# Altium footprint library LPEDT_Parts.PcbLib: 27 footprints (part 2 of 2)
Each footprint in its own frame and in the unit in brackets; x right, y up, seen from the top. Pads: shape width x height; smd on the part's side, far side on the other; paste and mask are expansions set on the pad; w line width, h text height; cw(c..) or ccw(c..) is an arc to the next point about the centre after c.
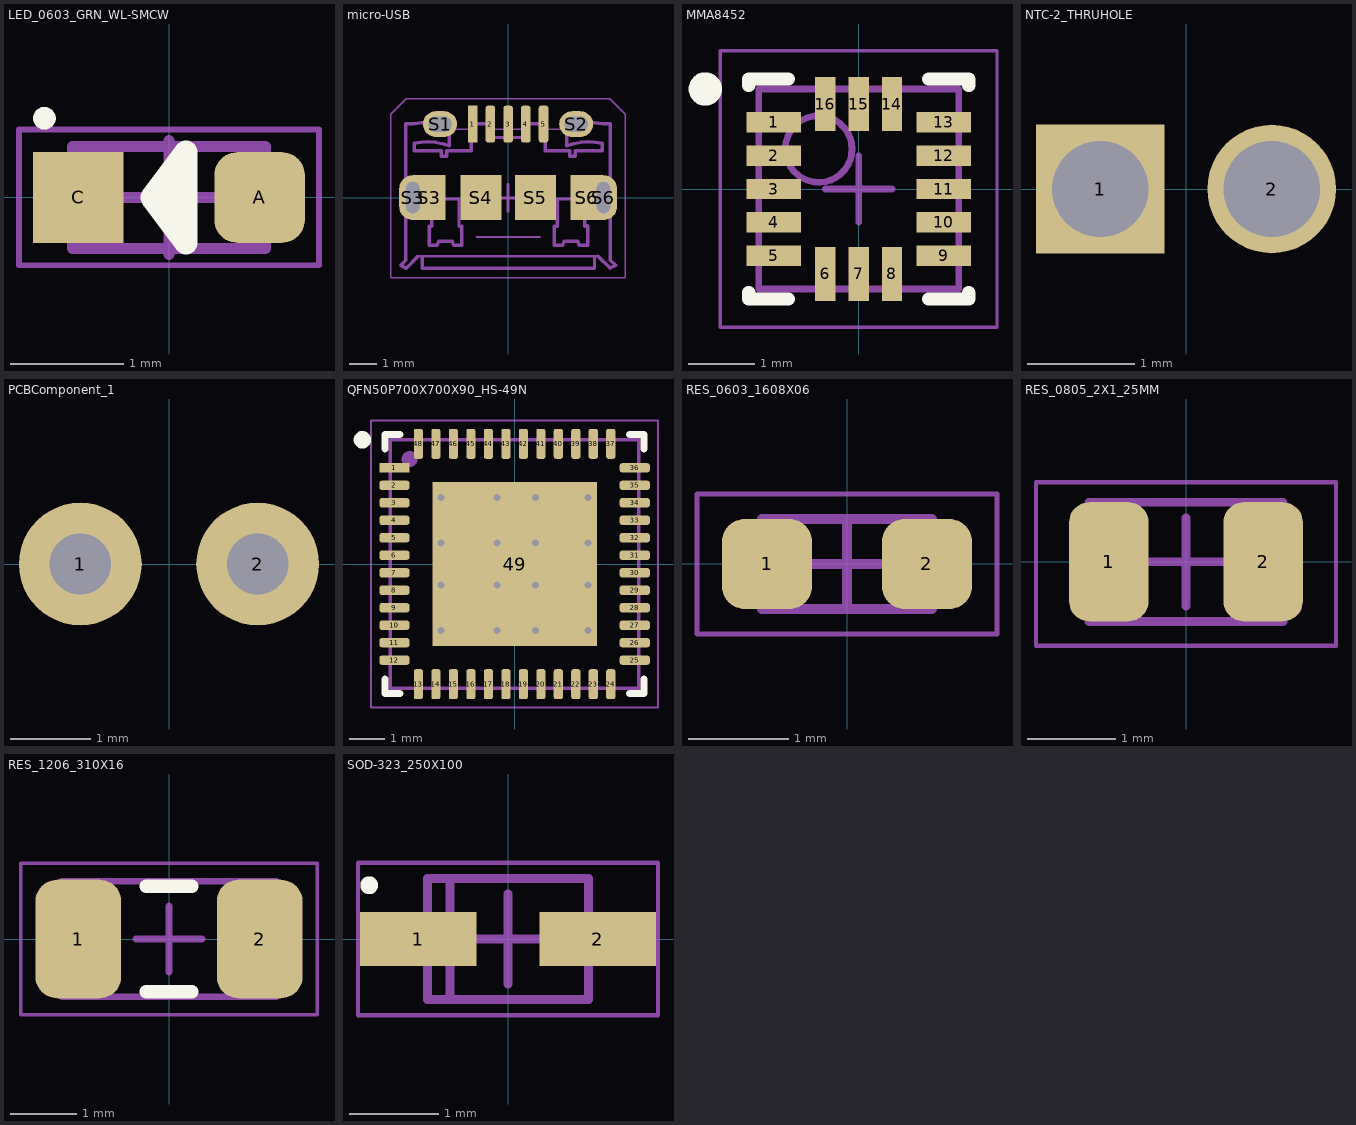
[diagram p1: the footprints below, top view; thin cyan lines are the x and y axes]

## LED_0603_GRN_WL-SMCW [mm] "SODFL, 2-Leads, Body 0.80x1.80mm, IPC Medium Density"
height 0.8
pads (2):
  rrect50% 0.8x0.8 smd: A(0.8,0)
  rect 0.8x0.8 smd: C(-0.8,0)
Top Overlay:
  circle w0.1: c-1.1,0.7 r0.05
  lines w0.2: -0.15,0 0.05,0
  lines w0.205: -0.15,0 0.15,0.4 0.15,-0.4 -0.15,0
Mechanical 13:
  lines w0.1: -0.85,-0.45 0.85,-0.45 0.85,0.45 -0.85,0.45 -0.85,-0.45
  text ".Designator" at -0.723,-0.254 h0.5
Mechanical 15:
  lines w0.05: -1.325,-0.6 1.325,-0.6 1.325,0.6 -1.325,0.6 -1.325,-0.6
  lines w0.1: -0.5,0 0.5,0 ; 0,-0.5 0,0.5
3D body "LED_0603_WURTH_WL-SMCW_base.step": height 0.65, standoff 0.01, extent -0.8,-0.4 0.8,0.4
3D body "LED_0603_WURTH_WL-SMCW_lens.step": height 0.71, standoff 0.31, extent -0.55,-0.4 0.55,0.4

## micro-USB [mm] "microUSB paste-in-pad"
height 3
pads (13):
  rect 0.35x1.35 smd mask+0.05: 1(-1.3,2.7)
  rrect50% 0.35x1.35 smd mask+0.05: 2(-0.65,2.7) 3(0,2.7) 4(0.65,2.7) 5(1.3,2.7)
  oval 1.25x0.95 hole 0.55 slot 0.85 at 0 deg mask+0.076: S1(-2.5,2.7) S2(2.5,2.7)
  rrect100% 1x1.65 hole 0.5 slot 1.15 at 90 deg mask+0.076: S3(-3.5,0) S6(3.5,0)
  rect 1.2x1.65 smd mask+0.076: S3(-2.896,0) S6(2.896,0)
  rect 1.5x1.65 smd mask+0.076: S4(-1,0) S5(1,0)
Top Paste:
  region: 3,-0.325 2.993,-0.432 3.061,-0.635 3.201,-0.797 3.393,-0.893 3.5,-0.9 3.614,-0.9 3.826,-0.812 3.987,-0.651 4.075,-0.439 4.075,-0.325 4.075,0.325 4.075,0.439 3.987,0.651 3.826,0.812 3.614,0.9 3.5,0.9 3.393,0.893 3.201,0.797 3.061,0.635 2.993,0.432 3,0.325
  region: 1.8,2.675 1.8,2.725 1.8,2.829 1.88,3.022 2.028,3.17 2.221,3.25 2.325,3.25 2.675,3.25 2.779,3.25 2.972,3.17 3.12,3.022 3.2,2.829 3.2,2.725 3.2,2.675 3.2,2.571 3.12,2.378 2.972,2.23 2.779,2.15 2.675,2.15 2.325,2.15 2.221,2.15 2.028,2.23 1.88,2.378 1.8,2.571
  region: -3.2,2.675 -3.2,2.725 -3.2,2.829 -3.12,3.022 -2.972,3.17 -2.779,3.25 -2.675,3.25 -2.325,3.25 -2.221,3.25 -2.028,3.17 -1.88,3.022 -1.8,2.829 -1.8,2.725 -1.8,2.675 -1.8,2.571 -1.88,2.378 -2.028,2.23 -2.221,2.15 -2.325,2.15 -2.675,2.15 -2.779,2.15 -2.972,2.23 -3.12,2.378 -3.2,2.571
  region: -3,0.325 -2.993,0.432 -3.061,0.635 -3.201,0.797 -3.393,0.893 -3.5,0.9 -3.614,0.9 -3.826,0.812 -3.987,0.651 -4.075,0.439 -4.075,0.325 -4.075,-0.325 -4.075,-0.439 -3.987,-0.651 -3.826,-0.812 -3.614,-0.9 -3.5,-0.9 -3.393,-0.893 -3.201,-0.797 -3.061,-0.635 -2.993,-0.432 -3,-0.325
Mechanical 13:
  lines w0.051: -2.153,2.513 -1.353,2.513 ; -0.653,2.513 0.658,2.513 ; 1.369,2.513 2.156,2.513
  lines w0.076: -1.153,-1.45 1.166,-1.45
  lines w0.102: -3.3,-2.15 3.3,-2.15
  lines w0.127: -3.314,-2.161 -3.744,-2.591 -3.944,-2.491 -3.753,-2.3 -3.753,2.716 -3.453,2.716 cw(c-2.992,0.239) -2.153,2.614 -2.153,2.513 -2.153,1.903 ccw(c-2.992,-0.472) -3.453,2.005 -3.453,1.725 -2.453,1.725 -2.453,1.522 -2.253,1.522 -2.253,1.725 -1.353,1.725 -1.353,2.513 -1.353,2.716 -0.653,2.716 -0.653,2.513 -0.653,2.208 0.658,2.208 0.658,2.513 0.658,2.716 1.369,2.716 1.369,2.513 1.369,1.725 2.258,1.725 2.258,1.522 2.461,1.522 2.461,1.725 3.452,1.725 3.452,2.005 ccw(c2.994,-0.464) 2.156,1.903 2.156,2.513 2.156,2.614 cw(c2.994,0.248) 3.452,2.716 3.75,2.716 3.75,-2.293 3.949,-2.489 3.745,-2.589 3.3,-2.15 ; -3.153,-2.175 -3.153,-2.6 3.172,-2.6 3.172,-2.175 ; 2.817,-1.05 2.817,-0.05 1.801,-0.05 1.801,-1.05 1.699,-1.05 1.699,-1.75 2.004,-1.75 2.055,-1.6 2.563,-1.6 2.614,-1.75 2.918,-1.75 2.918,-1.05 ; 2.817,-1.025 2.918,-1.025 ; -2.903,-1.75 -2.603,-1.75 -2.553,-1.6 -2.053,-1.6 -2.003,-1.75 -1.703,-1.75 -1.703,-1.05 -1.803,-1.05 -1.803,-0.05 -2.803,-0.05 -2.803,-1.05 -2.903,-1.05 -2.903,-1.75
  text ".Designator" at -1.4,0.1 h1.1
  text "pcb edge" at -1.125,-1.35 h0.63
Mechanical 15:
  lines w0.05: -4.3,-2.95 -4.3,3.066 -3.741,3.625 3.741,3.625 4.3,3.066 4.3,-2.95 -4.3,-2.95
  lines w0.1: -0.5,-0.012 0.5,-0.012 ; 0,-0.512 0,0.488
3D body "User Library-MicroUSB-B_Molex_105017-0001.step": height 2.71, standoff -0.6, extent -4.102,-2.58 4.098,2.85

## MMA8452 [mm] "QFN, 16-Leads, Body 3.00x3.00mm, Pitch 0.50mm, IPC Medium Density"
height 1
pads (16):
  rect 0.813x0.305 smd: 1(-1.275,1) 2(-1.275,0.5) 3(-1.275,0) 4(-1.275,-0.5) 5(-1.275,-1) 9(1.275,-1) 10(1.275,-0.5) 11(1.275,0)
  rect 0.305x0.813 smd: 6(-0.5,-1.275) 7(0,-1.275) 8(0.5,-1.275) 14(0.5,1.275) 15(0,1.275) 16(-0.5,1.275)
  rect 0.813x0.305 smd mask+0.052: 12(1.275,0.5)
  rect 0.813x0.305 smd mask+0.051: 13(1.275,1)
Top Overlay:
  circle w0.25: c-2.3,1.5 r0.125
  lines w0.2: -1.65,-1.552 -1.65,-1.65 -1.053,-1.65 ; -1.65,1.553 -1.65,1.65 -1.053,1.65 ; 1.052,-1.65 1.65,-1.65 1.65,-1.552 ; 1.052,1.65 1.65,1.65 1.65,1.553
Mechanical 13:
  circle w0.1: c-0.6,0.6 r0.5
  lines w0.1: -1.5,-1.5 1.5,-1.5 1.5,1.5 -1.5,1.5 -1.5,-1.5
Mechanical 15:
  lines w0.05: -2.075,-2.075 2.075,-2.075 2.075,2.075 -2.075,2.075 -2.075,-2.075
  lines w0.1: -0.5,0 0.5,0 ; 0,-0.5 0,0.5
3D body: height 1, standoff 0, extent -1.5,-1.5 1.5,1.5

## NTC-2_THRUHOLE [mm] "NTC, 2 Lead, THRUHOLE"
pads (2):
  rect 1.2x1.2 hole 0.9: 1(-0.8,0)
  round 1.2 hole 0.9: 2(0.8,0)
Mechanical 13:
  text ".Designator" at -0.6,-1.182 h0.63

## PCBComponent_1 [mil]
pads (2):
  round 60 hole 30: 1(-43.31,0) 2(43.31,0)

## PCBComponent_1 - duplicate [mm]

## QFN50P700X700X90_HS-49N [mm] "QFN, 48-Leads, Body 7.00x7.00mm, Pitch 0.50mm, Thermal Pad 4.70x4.70mm, IPC Medium Density"
height 0.9
pads (49):
  rect 0.86x0.26 smd: 1(-3.435,2.75)
  rrect50% 0.86x0.26 smd: 2(-3.435,2.25) 3(-3.435,1.75) 4(-3.435,1.25) 5(-3.435,0.75) 6(-3.435,0.25) 7(-3.435,-0.25) 8(-3.435,-0.75) 9(-3.435,-1.25) 10(-3.435,-1.75) 11(-3.435,-2.25) 12(-3.435,-2.75) 25(3.435,-2.75) 26(3.435,-2.25) 27(3.435,-1.75) 28(3.435,-1.25) 29(3.435,-0.75) 30(3.435,-0.25) 31(3.435,0.25) 32(3.435,0.75) 33(3.435,1.25) 34(3.435,1.75) 35(3.435,2.25) 36(3.435,2.75)
  rrect50% 0.26x0.86 smd: 13(-2.75,-3.435) 14(-2.25,-3.435) 15(-1.75,-3.435) 16(-1.25,-3.435) 17(-0.75,-3.435) 18(-0.25,-3.435) 19(0.25,-3.435) 20(0.75,-3.435) 21(1.25,-3.435) 22(1.75,-3.435) 23(2.25,-3.435) 24(2.75,-3.435) 37(2.75,3.435) 38(2.25,3.435) 39(1.75,3.435) 40(1.25,3.435) 41(0.75,3.435) 42(0.25,3.435) 43(-0.25,3.435) 44(-0.75,3.435) 45(-1.25,3.435) 46(-1.75,3.435) 47(-2.25,3.435) 48(-2.75,3.435)
  rect 4.7x4.7 smd paste-5: 49(0,0)
via 2.1,1.9 diameter 0.305 hole 0.2
via -2.1,0.6 diameter 0.305 hole 0.2
via -0.5,1.9 diameter 0.305 hole 0.2
via -2.1,1.9 diameter 0.305 hole 0.2
via 0.6,0.6 diameter 0.305 hole 0.2
via 0.6,1.9 diameter 0.305 hole 0.2
via 2.1,0.6 diameter 0.305 hole 0.2
via -0.5,0.6 diameter 0.305 hole 0.2
via 0.6,-0.6 diameter 0.305 hole 0.2
via 2.1,-0.6 diameter 0.305 hole 0.2
via 2.1,-1.9 diameter 0.305 hole 0.2
via 0.6,-1.9 diameter 0.305 hole 0.2
via -0.5,-1.9 diameter 0.305 hole 0.2
via -0.5,-0.6 diameter 0.305 hole 0.2
via -2.1,-1.9 diameter 0.305 hole 0.2
via -2.1,-0.6 diameter 0.305 hole 0.2
Top Overlay:
  circle w0.25: c-4.35,3.55 r0.125
  lines w0.2: -3.7,-3.28 -3.7,-3.7 -3.28,-3.7 ; -3.7,3.28 -3.7,3.7 -3.28,3.7 ; 3.28,-3.7 3.7,-3.7 3.7,-3.28 ; 3.28,3.7 3.7,3.7 3.7,3.28
Top Paste:
  rectangle: -0.405,-0.459 0.495,0.441
  rectangle: -0.4,0.8 0.5,1.7
  rectangle: -0.386,-1.751 0.514,-0.851
  rectangle: -1.848,-1.775 -0.748,-0.675
  rectangle: -1.864,-0.511 -0.764,0.589
  rectangle: 0.8,-1.8 1.9,-0.7
  rectangle: 0.799,-0.536 1.899,0.564
  rectangle: 0.8,0.7 1.9,1.8
  rectangle: -1.849,0.749 -0.749,1.849
Mechanical 13:
  circle w0.254: c-3,3 r0.1
  lines w0.1: -3.55,-3.55 3.55,-3.55 3.55,3.55 -3.55,3.55 -3.55,-3.55
  text ".Designator" at -3.246,-3.213 h1
Mechanical 15:
  lines w0.05: -4.1,-4.1 4.1,-4.1 4.1,4.1 -4.1,4.1 -4.1,-4.1
  lines w0.1: -0.5,0 0.5,0 ; 0,-0.5 0,0.5
3D body: height 0.9, standoff 0, extent -3.55,-3.55 3.55,3.55

## RES_0603_1608X06 [mm] "Chip Resistor, 2-Leads, Body 1.60x0.80mm, IPC Medium Density"
height 0.55
pads (2):
  rrect50% 0.9x0.9 smd: 1(-0.8,0) 2(0.8,0)
Mechanical 13:
  lines w0.1: -0.85,-0.45 0.85,-0.45 0.85,0.45 -0.85,0.45 -0.85,-0.45
  text ".Designator" at -0.635,-0.254 h0.4
Mechanical 15:
  lines w0.05: -1.5,-0.7 1.5,-0.7 1.5,0.7 -1.5,0.7 -1.5,-0.7
  lines w0.1: -0.45,0 0.45,0 ; 0,-0.45 0,0.45
3D body "0603_1608X05N.step": height 0.45, standoff 0, extent -0.775,-0.425 0.775,0.425

## RES_0805_2X1_25MM [mm] "Chip Resistor, 2-Leads, Body 2.00x1.25mm, IPC Medium Density"
height 0.65
pads (2):
  rrect50% 0.9x1.35 smd: 1(-0.875,0) 2(0.875,0)
Mechanical 13:
  lines w0.1: -1.1,-0.675 -1.1,0.675 1.1,0.675 1.1,-0.675 -1.1,-0.675
  text ".Designator" at -0.975,-0.342 h0.63
Mechanical 15:
  lines w0.05: -1.7,-0.95 1.7,-0.95 1.7,0.9 -1.7,0.9 -1.7,-0.95
  lines w0.1: -0.5,0 0.5,0 ; 0,-0.5 0,0.5
3D body "RES_0805_2X1_25MM.step": height 0.65, standoff 0, extent -1.1,-0.675 1.1,0.675

## RES_1206_310X16 [mm] "Chip Resistor, 2-Leads, Body 3.10x1.60mm, IPC Medium Density"
height 0.65
pads (2):
  rrect50% 1.3x1.8 smd: 1(-1.375,0) 2(1.375,0)
Top Overlay:
  lines w0.2: -0.35,-0.8 0.35,-0.8 ; -0.35,0.8 0.35,0.8
Mechanical 13:
  lines w0.1: -1.625,-0.875 1.625,-0.875 1.625,0.875 -1.625,0.875 -1.625,-0.875
  text ".Designator" at -1.175,-0.467 h0.63
Mechanical 15:
  lines w0.05: -2.25,-1.15 2.25,-1.15 2.25,1.15 -2.25,1.15 -2.25,-1.15
  lines w0.1: -0.5,0 0.5,0 ; 0,-0.5 0,0.5
3D body "RES_1206.step": height 0.65, standoff 0, extent -1.625,-0.875 1.625,0.875

## SOD-323_250X100 [mm] "SOD-323, 2-Leads, Body 1.25x2.50mm, IPC Medium Density"
height 1
pads (2):
  rect 1.3x0.6 smd: 1(-1,0) 2(1,0)
Top Overlay:
  circle w0.1: c-1.55,0.6 r0.05
Mechanical 13:
  lines w0.1: -0.65,-0.675 -0.65,0.675 ; -0.9,-0.675 -0.9,0.675 0.9,0.675 0.9,-0.675 -0.9,-0.675
  text ".Designator" at -0.775,-0.383 h0.5
Mechanical 15:
  lines w0.05: -1.675,-0.85 -1.675,0.85 1.675,0.85 1.675,-0.85 -1.675,-0.85
  lines w0.1: -0.5,0 0.5,0 ; 0,-0.5 0,0.5
3D body "SOD-323_250X100.step": height 1, standoff 0, extent -1.25,-0.675 1.25,0.675